# EAGLE library part IC_MM74HC589 (library TD-MySensors)
MM74HC589 shift input register with SPI support
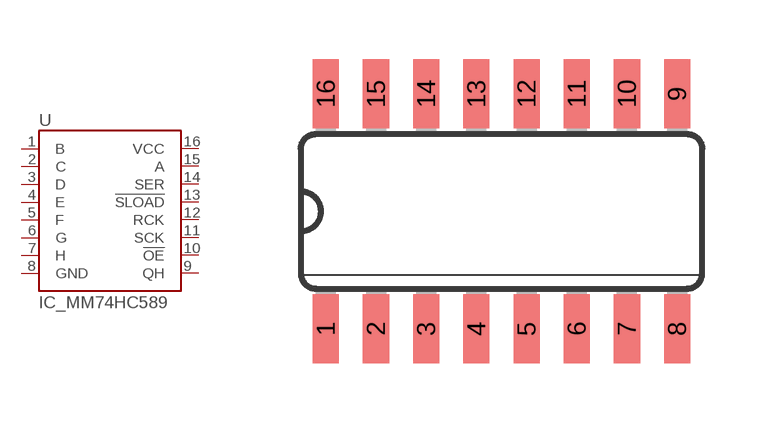
[diagram p15: symbol with the pads of SO16; footprint SO16]

Designator prefix -

## IC_MM74HC589SO16  [SO16]
1  B
2  C
3  D
4  E
5  F
6  G
7  H
8  GND  pwr
9  QH
10  !OE
11  SCK
12  RCK
13  !SLOAD
14  SER
15  A
16  VCC  pwr

## Footprint SO16 (pad centres in mm)
Small Outline package 150 mil
smd 0.66 x 1.75: 1 -4.445,-2.973; 2 -3.175,-2.973; 3 -1.905,-2.973; 4 -0.635,-2.973; 5 0.635,-2.973; 6 1.905,-2.973; 7 3.175,-2.973; 8 4.445,-2.973; 9 4.445,2.973; 10 3.175,2.973; 11 1.905,2.973; 12 0.635,2.973; 13 -0.635,2.973; 14 -1.905,2.973; 15 -3.175,2.973; 16 -4.445,2.973